# Altium schematic symbol library 0ZCM0010FF2G.SchLib: 1 symbol
Pins are listed as number, name and electrical type; pins without a type are passive.

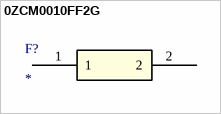
[diagram p0: symbol 0ZCM0010FF2G]

## 0ZCM0010FF2G
designator F?
Imported; Manufacturer_Part_Number: 0ZCM0010FF2G; Vendor: Belfuse; Built_By: EMA_UL_Team; Type: DEV; C: Copyright (C) 2016 Accelerated Designs. All rights reserved; RefDes: RefDes; Value: Value
footprint 0ZCM
pins: 1, 2